# Altium footprint library RPL_POWER2.PcbLib: 47 footprints (part 3 of 3)
Each footprint in its own frame and in the unit in brackets; x right, y up, seen from the top. Pads: shape width x height; smd on the part's side, far side on the other; paste and mask are expansions set on the pad; w line width, h text height; cw(c..) or ccw(c..) is an arc to the next point about the centre after c.
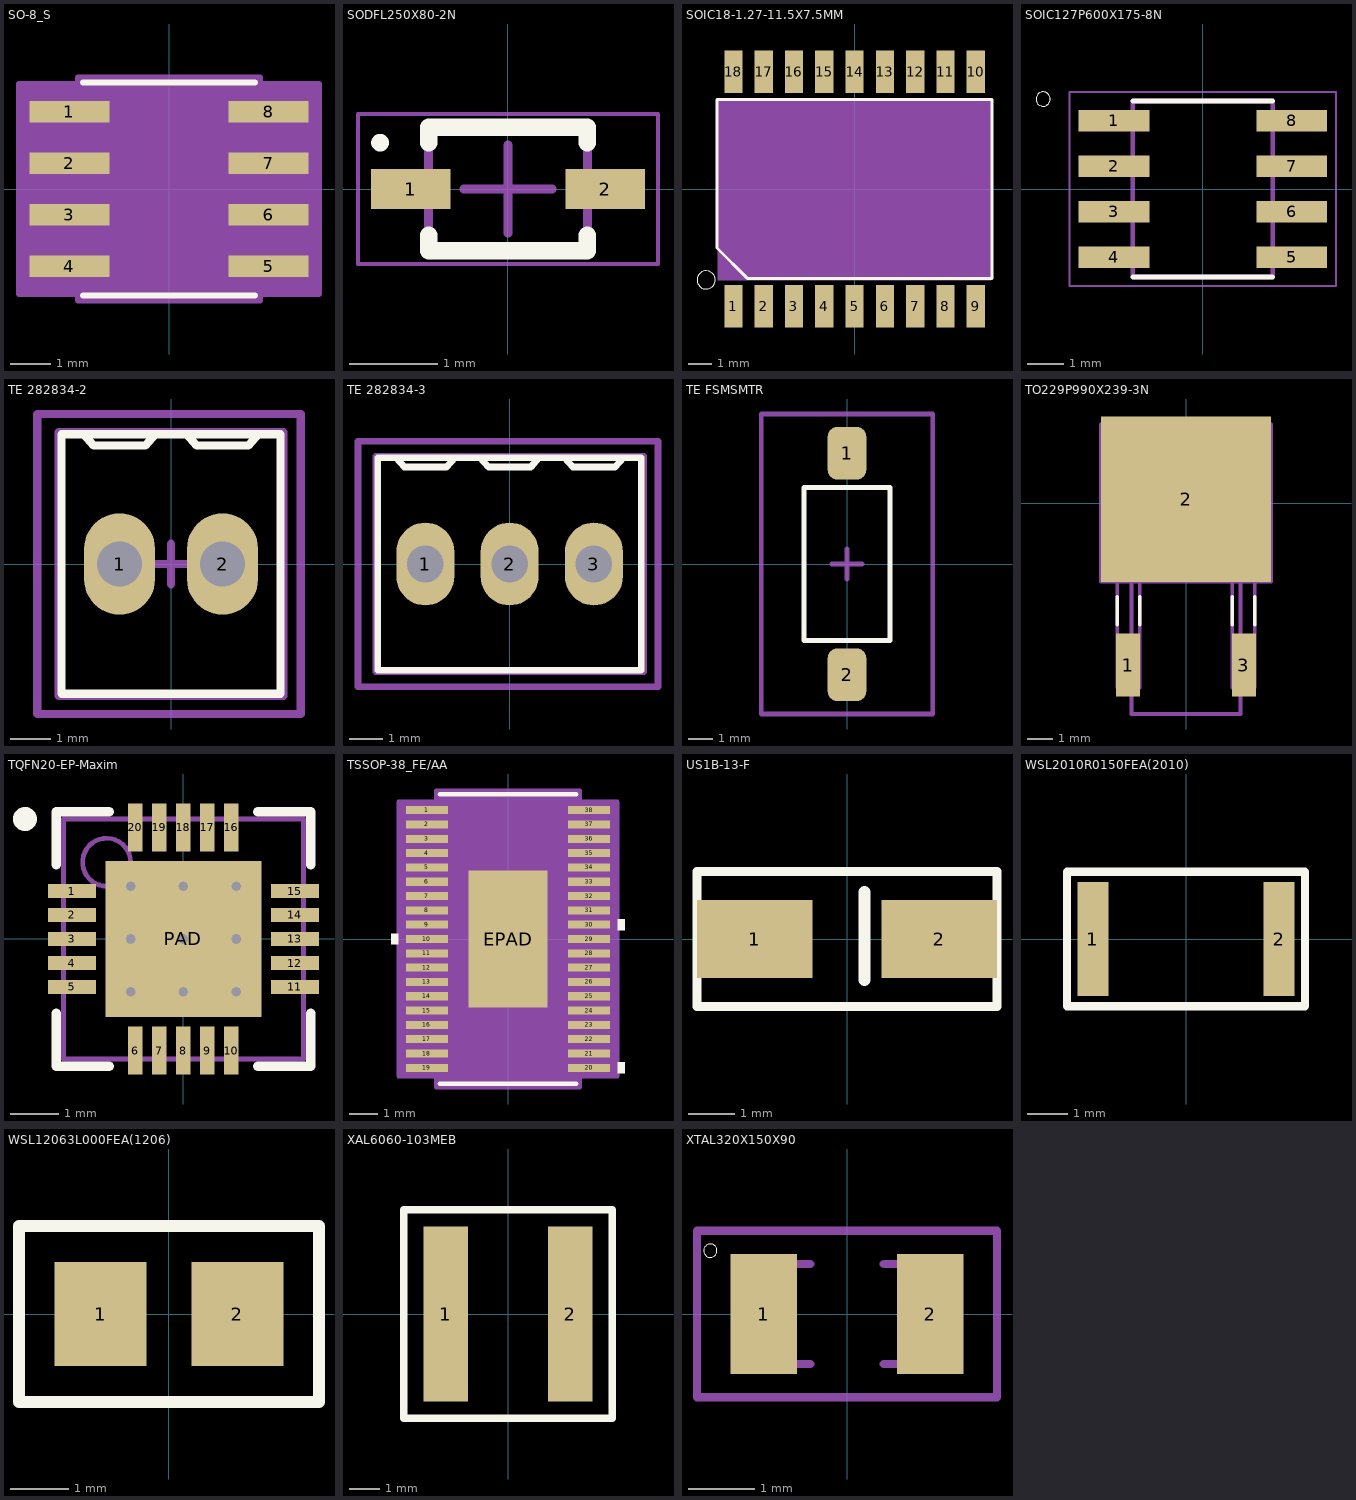
[diagram p2: the footprints below, top view; thin cyan lines are the x and y axes]

## SO-8_S [mil]
pads (8):
  rect 78x21 smd: 1(-97,75) 2(-97,25) 3(-97,-25) 4(-97,-75) 5(97,-75) 6(97,-25) 7(97,25) 8(97,75)
Top Overlay:
  lines w6: -83.5,-103.5 83.5,-103.5 ; -83.5,103.5 83.5,103.5
Mechanical 13:
  lines w0: -12,98.5 ccw(c0,98.5) 12,98.5
Mechanical 15:
  region: -88.5,-102 -146,-102 -146,102 -88.5,102 -88.5,108.5 88.5,108.5 88.5,102 146,102 146,-102 88.5,-102 88.5,-108.5 -88.5,-108.5
  lines w6: -146,-102 -88.5,-102 -88.5,-108.5 88.5,-108.5 88.5,-102 146,-102 146,102 88.5,102 88.5,108.5 -88.5,108.5 -88.5,102 -146,102 -146,-102
3D body "SO-8_S.stp": height 69.1, standoff 0, extent -122,-98.5 122,98.5

## SODFL250X80-2N [mm]
pads (2):
  rect 0.9x0.45 smd: 1(-1.1,0) 2(1.1,0)
Top Overlay:
  circle w0.1: c-1.45,0.525 r0.05
  lines w0.2: -0.9,-0.525 -0.9,-0.7 0.9,-0.7 0.9,-0.525 ; -0.9,0.525 -0.9,0.7 0.9,0.7 0.9,0.525
Mechanical 13:
  lines w0.1: -0.9,-0.675 -0.9,0.675 0.9,0.675 0.9,-0.675 -0.9,-0.675
Mechanical 15:
  lines w0.05: -1.7,-0.85 -1.7,0.85 1.7,0.85 1.7,-0.85 -1.7,-0.85
  lines w0.1: -0.5,0 0.5,0 ; 0,-0.5 0,0.5
3D body: height 0.8, standoff 0, extent -0.9,-0.675 0.9,0.675

## SOIC18-1.27-11.5X7.5MM [mil]
pads (18):
  rect 30x70 smd: 1(-200,-193.5) 2(-150,-193.5) 3(-100,-193.5) 4(-50,-193.5) 5(0,-193.5) 6(50,-193.5) 7(100,-193.5) 8(150,-193.5) 9(200,-193.5) 10(200,193.5) 11(150,193.5) 12(100,193.5) 13(50,193.5) 14(0,193.5) 15(-50,193.5) 16(-100,193.5) 17(-150,193.5) 18(-200,193.5)
Top Overlay:
  circle w0: c-245,-150 r15
  lines w5: -227,-97.5 -227,147.5 227,147.5 227,-147.5 -177,-147.5 -227,-97.5
Mechanical 1:
  region: -225.51,150 225,150 225,-150.34 -225.51,-150.34

## SOIC127P600X175-8N [mm]
pads (8):
  rect 1.97x0.6 smd: 1(-2.475,1.905) 2(-2.475,0.635) 3(-2.475,-0.635) 4(-2.475,-1.905) 5(2.475,-1.905) 6(2.475,-0.635) 7(2.475,0.635) 8(2.475,1.905)
Top Overlay:
  circle w0: c-4.445,2.505 r0.2
  lines w0.127: -1.95,-2.45 1.95,-2.45 ; -1.95,2.45 1.95,2.45
Mechanical 1:
  circle w0: c-4.445,2.505 r0.2
  lines w0.05: -3.71,-2.7 -3.71,2.7 3.71,2.7 3.71,-2.7 -3.71,-2.7
  lines w0.127: -1.95,-2.45 -1.95,2.45 1.95,2.45 1.95,-2.45 -1.95,-2.45

## TE 282834-2 [mm]
pads (2):
  oval 1.75x2.5 hole 1.1: 1(-1.27,0) 2(1.27,0)
Top Overlay:
  lines w0.2: -2.159,3.2 -1.905,2.921 -0.635,2.921 -0.381,3.2 ; 0.381,3.2 0.635,2.921 1.905,2.921 2.159,3.2 ; -2.7,-3.2 -2.6,-3.2 2.7,-3.2 2.7,3.2 -2.7,3.2 -2.7,-3.2
Mechanical 13:
  lines w0.2: -2.77,-3.25 -2.77,3.25 2.77,3.25 2.77,-3.25 -2.77,-3.25
Mechanical 15:
  lines w0.2: -0.5,0 0.5,0 ; 0,-0.5 0,0.5 ; -3.3,-3.7 3.2,-3.7 3.2,-2.9 3.2,3.7 -3.3,3.7 -3.3,-3.3 -3.3,-3.7
3D body "TE Term Block 2port 282834-2-c-3d.STEP": height 10, standoff -3.4, extent -2.77,-3.25 2.77,3.25

## TE 282834-3 [mm]
pads (3):
  oval 1.75x2.5 hole 1.1: 1(-2.54,0) 2(0,0) 3(2.54,0)
Top Overlay:
  lines w0.2: -3.429,3.2 -3.175,2.921 -1.905,2.921 -1.651,3.2 ; -0.889,3.2 -0.635,2.921 0.635,2.921 0.889,3.2 ; 1.651,3.2 1.905,2.921 3.175,2.921 3.429,3.2 ; -3.97,-3.2 -3.87,-3.2 3.97,-3.2 3.97,3.2 -3.97,3.2 -3.97,-3.2
Mechanical 13:
  lines w0.2: -4.04,-3.25 -4.04,3.25 4.04,3.25 4.04,-3.25 -4.04,-3.25
Mechanical 15:
  lines w0.2: -0.5,0 0.5,0 ; 0,-0.5 0,0.5 ; -4.57,-3.7 4.47,-3.7 4.47,-2.9 4.47,3.7 -4.57,3.7 -4.57,-3.3 -4.57,-3.7
3D body "TE Term Block 3port 282834-3-c-3d.STEP": height 10, standoff -3.4, extent -4.04,-3.25 4.04,3.25

## TE FSMSMTR [mm]
pads (2):
  rrect50% 1.6x2.19 smd: 1(0,4.595) 2(0,-4.595)
Top Overlay:
  lines w0.2: -1.778,-3.175 -1.778,3.175 1.778,3.175 1.778,-3.175 -1.778,-3.175
Mechanical 15:
  lines w0.2: -0.635,0 0.635,0 ; 0,-0.635 0,0.635 ; -3.556,-6.223 3.556,-6.223 3.556,6.223 -3.556,6.223 -3.556,-6.223
3D body "FSMSMTR.STEP": height 4.42, standoff 0, extent -1.75,-4.984 1.75,4.985

## TO229P990X239-3N [mil]
pads (3):
  rect 37x98 smd: 1(-90,-252) 3(90,-252)
  rect 265x257 smd: 2(0,6)
Top Overlay:
  lines w6: -107,-189 -107,-146 ; -72,-189 -72,-146 ; 72,-189 72,-146 ; 107,-189 107,-146
Mechanical 1:
  lines w6: -85,-122 -72,-122 -72,-287 -107,-287 -107,-122 -85,-122 ; -85,-122 -85,-328 85,-328 85,-122 ; 85,-122 107,-122 107,-287 72,-287 72,-122 85,-122 ; -132,-122 132,-122 132,122 -132,122 -132,-122

## TQFN20-EP-Maxim [mm]
pads (21):
  rect 1x0.3 smd: 1(-2.325,1) 2(-2.325,0.5) 3(-2.325,0) 4(-2.325,-0.5) 5(-2.325,-1) 11(2.325,-1) 12(2.325,-0.5) 13(2.325,0) 14(2.325,0.5) 15(2.325,1)
  rect 0.3x1 smd: 6(-1,-2.325) 7(-0.5,-2.325) 8(0,-2.325) 9(0.5,-2.325) 10(1,-2.325) 16(1,2.325) 17(0.5,2.325) 18(0,2.325) 19(-0.5,2.325) 20(-1,2.325)
  rect 3.25x3.25 smd: PAD(0,0)
via 1.1,1.1 diameter 0.5 hole 0.2
via 1.1,-1.1 diameter 0.5 hole 0.2
via 0,1.1 diameter 0.5 hole 0.2
via -1.1,1.1 diameter 0.5 hole 0.2
via 0,-1.1 diameter 0.5 hole 0.2
via -1.1,-1.1 diameter 0.5 hole 0.2
via 1.1,0 diameter 0.5 hole 0.2
via 0,0 diameter 0.5 hole 0.2
via -1.1,0 diameter 0.5 hole 0.2
Top Overlay:
  circle w0.25: c-3.3,2.5 r0.125
  lines w0.2: -2.65,-1.55 -2.65,-2.65 -1.55,-2.65 ; -2.65,1.55 -2.65,2.65 -1.55,2.65 ; 1.55,-2.65 2.65,-2.65 2.65,-1.55 ; 1.55,2.65 2.65,2.65 2.65,1.55
Mechanical 13:
  circle w0.1: c-1.6,1.6 r0.5
  lines w0.1: -2.5,-2.5 2.5,-2.5 2.5,2.5 -2.5,2.5 -2.5,-2.5
3D body: height 0.8, standoff 0.02, extent -2.5,-2.5 2.5,2.5

## TSSOP-38_FE/AA [mil]
pads (39):
  rect 58x11 smd: 1(-111,176.4) 2(-111,156.8) 3(-111,137.2) 4(-111,117.6) 5(-111,98) 6(-111,78.4) 7(-111,58.8) 8(-111,39.2) 9(-111,19.6) 10(-111,0) 11(-111,-19.6) 12(-111,-39.2) 13(-111,-58.8) 14(-111,-78.4) 15(-111,-98) 16(-111,-117.6) 17(-111,-137.2) 18(-111,-156.8) 19(-111,-176.4) 20(111,-176.4) 21(111,-156.8) 22(111,-137.2) 23(111,-117.6) 24(111,-98) 25(111,-78.4) 26(111,-58.8) 27(111,-39.2) 28(111,-19.6) 29(111,0) 30(111,19.6) 31(111,39.2) 32(111,58.8) 33(111,78.4) 34(111,98) 35(111,117.6) 36(111,137.2) 37(111,156.8) 38(111,176.4)
  rect 108x187 smd paste-93: EPAD(0,0)
Top Overlay:
  region: 150,27.1 160,27.1 160,12.1 150,12.1
  region: 150,-168.9 160,-168.9 160,-183.9 150,-183.9
  region: -150,7.5 -160,7.5 -160,-7.5 -150,-7.5
  lines w6: -93.5,-198 93.5,-198 ; -93.5,198 93.5,198
Top Paste:
  region: 50.06,-35.1 3.94,-35.1 3.94,-89.56 50.06,-89.56
  region: 50.06,27.23 3.94,27.23 3.94,-27.23 50.06,-27.23
  region: 50.06,89.56 3.94,89.56 3.94,35.1 50.06,35.1
  region: -3.94,-35.1 -50.06,-35.1 -50.06,-89.56 -3.94,-89.56
  region: -3.94,27.23 -50.06,27.23 -50.06,-27.23 -3.94,-27.23
  region: -3.94,89.56 -50.06,89.56 -50.06,35.1 -3.94,35.1
Mechanical 13:
  lines w0: -12,193 ccw(c0,193) 12,193
Mechanical 15:
  region: -98.5,-188.2 -150,-188.2 -150,188.2 -98.5,188.2 -98.5,203 98.5,203 98.5,188.2 150,188.2 150,-188.2 98.5,-188.2 98.5,-203 -98.5,-203
  lines w6: -150,-188.2 -98.5,-188.2 -98.5,-203 98.5,-203 98.5,-188.2 150,-188.2 150,188.2 98.5,188.2 98.5,203 -98.5,203 -98.5,188.2 -150,188.2 -150,-188.2
3D body: height 10, standoff 0, extent 0,0 10,10

## US1B-13-F [mm]
pads (2):
  rect 2.5x1.7 smd: 1(-2,0) 2(2,0)
Top Overlay:
  lines w0.2: -3.25,-1.46 -3.25,-0.486 -3.25,1.46 3.25,1.46 3.25,-1.46 -3.25,-1.46
  lines w0.254: 0.381,-0.889 0.381,1.016

## WSL2010R0150FEA(2010) [mil]
pads (2):
  rect 30x110 smd: 1(-90,0) 2(90,0)
Top Overlay:
  lines w7.87: -115,-65 -115,-5.94 -115,65 115,65 115,-65 -115,-65

## WSL12063L000FEA(1206) [mm]
pads (2):
  rect 1.57x1.78 smd: 1(-1.165,0) 2(1.165,0)
Top Overlay:
  lines w0.2: -2.56,-1.5 2.56,-1.5 2.56,1.5 -2.56,1.5 -2.56,0 -2.56,-1.5

## XAL6060-103MEB [mm]
pads (2):
  rect 1.43x5.69 smd: 1(-2.02,0) 2(2.02,0)
Top Overlay:
  lines w0.254: 3.38,-3.38 3.38,3.38 -3.38,3.38 -3.38,-3.38 0,-3.38 3.38,-3.38 ; 3.38,-3.38 3.38,-3.38

## XTAL320X150X90 [mm]
pads (2):
  rect 1x1.8 smd: 1(-1.25,0) 2(1.25,0)
Top Overlay:
  circle w0: c-2.05,0.95 r0.1
Mechanical 1:
  lines w0.127: -0.55,-0.75 -1.6,-0.75 -1.6,0.75 -0.55,0.75 ; 0.55,-0.75 1.6,-0.75 1.6,0.75 0.55,0.75 ; -2.25,-1.25 2.25,-1.25 2.25,1.25 -2.25,1.25 -2.25,-1.25